# Altium schematic symbol library POL_CAP_MP.SchLib: 1 symbol
Pins are listed as number, name and electrical type; pins without a type are passive.

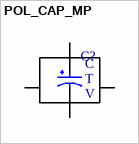
[diagram p0: symbol POL_CAP_MP]

## POL_CAP_MP
designator C?  Voltage Rating: V  Tolerance: T  Capacitance: C
=Description; ComponentLink1Description: Datasheet; ComponentLink1URL: www.google.com
pins: 1, 2, MP1 MP2, MP2